# Altium schematic symbol library PressurePulse.SchLib: 50 symbols
Pins are listed as number, name and electrical type; pins without a type are passive.

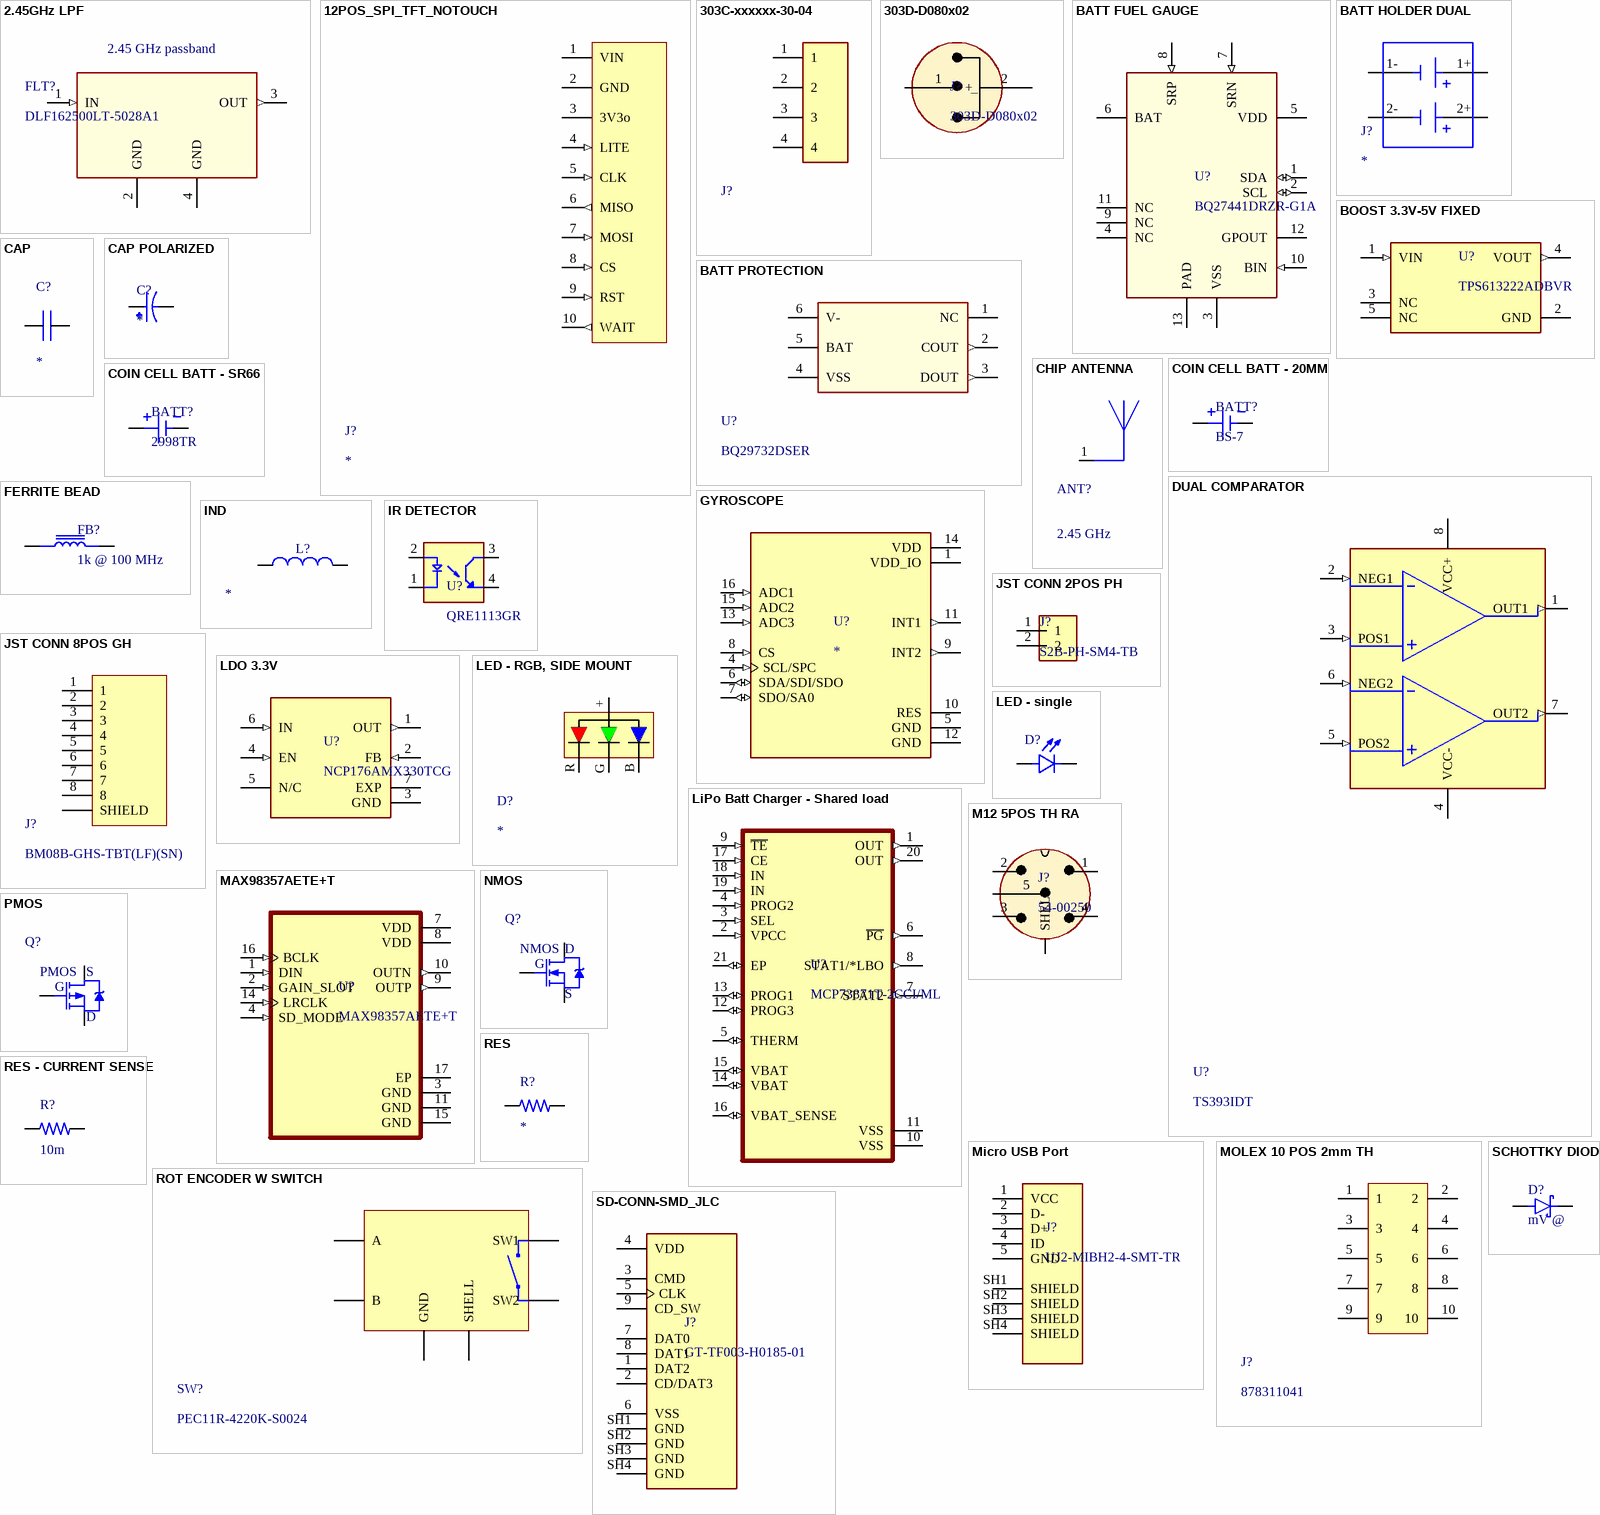
[diagram p0: symbols 2.45GHz LPF to SD-CONN-SMD_JLC]

## 2.45GHz LPF
designator FLT?, comment DLF162500LT-5028A1
RF FILTER LOW PASS 2.45GHZ 0603; MFR: TDK; MFR PN: DLF162500LT-5028A1; Value: DLF162500LT-5028A1; JLCPCB PN: C531364
footprint DLF-4_1P6X0P8
pins: 1 IN (in), 2 GND (power), 3 OUT (out), 4 GND (power)
text: 2.45 GHz passband

## 12POS_SPI_TFT_NOTOUCH
designator J?
Value: DNS; MFR: *; MFR PN: *; JLCPCB PN: *
footprint 2.54MM-12POS_TFT
pins: 1 VIN (power), 2 GND, 3 3V3o, 4 LITE (in), 5 CLK (in), 6 MISO (out), 7 MOSI (in), 8 CS (in), 9 RST (in), 10 WAIT (out)

## 303C-xxxxxx-30-04
designator J?
MAGNETIC POGO 4POS; MFR: ATTEND Technology; MFR PN: 303C-321018-30-04; Value: DNS; JLCPCB PN: *
footprint MAG POGO - 4 POS MALE
pins: 1, 2, 3, 4

## 303D-D080x02
designator J?
POGO PIN MAGNET TYPE, 2P, 8.0D,; MFR: ATTEND Technology; MFR PN: 303D-D080M02; Value: DNS; JLCPCB PN: *
footprint MAG POGO - MALE (ATTEND Technology)
footprint MAG POGO - FEMALE (ATTEND Technology)
pins: 1 +, 2 _

## BATT FUEL GAUGE
designator U?, comment BQ27441DRZR-G1A
No Description Available; MFR: Texas Instruments; Value: BQ27441DRZR-G1A; JLCPCB PN: *; MFR PN: BQ27441DRZR-G1A
footprint bq27441-G1
pins: 1 SDA (io), 2 SCL (io), 3 VSS (power), 4 NC, 5 VDD (power), 6 BAT (power), 7 SRN (in), 8 SRP (in), 9 NC, 10 BIN (in), 11 NC, 12 GPOUT (oc), 13 PAD (power)

## BATT HOLDER DUAL
designator J?
Battery Holder (Open) 18650 2 Cell PC Pin; MFR: MPD (Memory Protection Devices); MFR PN: BK-18650-PC4; Value: DNS; JLCPCB PN: *
footprint 18650_DUAL_PARALLEL
pins: 1+, 1-, 2+, 2-

## BATT PROTECTION
designator U?, comment BQ29732DSER
IC BATT PROT LI-ION 1CELL 6WSON; MFR: Texas Instruments; MFR PN: BQ29732DSER; Value: BQ29732DSER; JLCPCB PN: *
footprint 6-WFDFN
pins: 1 NC, 2 COUT (out), 3 DOUT (out), 4 VSS (power), 5 BAT, 6 V- (power)

## BOOST 3.3V-5V FIXED
designator U?, comment TPS613222ADBVR
6-uA Quiescent Current, 1.8-A Switch Current Boost Converter 5-SOT-23 -40 to 85; MFR: Texas Instruments; MFR PN: TPS613222ADBVR; Value: TPS613222ADBVR
footprint SOT-23-5
pins: 1 VIN (in), 2 GND (power), 3 NC, 4 VOUT (out), 5 NC

## CAP
designator C?  (value not drawn)
Capacitor; MFR: *; MFR PN: *; JLCPCB PN: *; Footprint: *; Value: *
footprint 0402C (0402 SMT Capacitor)
footprint 0805C
pins: 1, 2

## CAP POLARIZED
designator C?
Value: *; MFR: *; MFR PN: *; JLCPCB PN: *
footprint CAP_POL_SMD
pins: 1, 2

## CHIP ANTENNA
designator ANT?  Center Frequency: 2.45 GHz  (hidden comment: *)
MFR: Pulse Electronics; MFR PN: ANT7020LL05R2400A; Value: DNS; JLCPCB PN: *
footprint ANTC5220X130N
footprint ANT_ANT7020LL05R0870A_PUL-L
pins: 1

## COIN CELL BATT - 20MM
designator BATT?, comment BS-7
Battery Holder (Open) Coin, 20.0mm 1 Cell PC Pin; MP: BS-2-1; MF: Q&J; Value: BS-2-1; JLCPCB PN: C70376
footprint BAT_BS-7
pins: 1 POS, 2 NEG

## COIN CELL BATT - SR66
designator BATT?, comment 2998TR
Battery Holder (Open) Coin, 6.8mm, 1 Cell PC Pin; MFR: Keystone Electronics; Value: DNS; MFR PN: 2998TR; JLCPCB PN: DNS
footprint SR66
pins: N NEG, P POS

## DUAL COMPARATOR
designator U?, comment TS393IDT
Micropower dual CMOS voltage comparators; MFR: STMicroelectronics; MFR PN: TS393IDT; Value: TS393IDT; JLCPCB PN: C7106
footprint SOIC-8
pins: 1 OUT1 (out), 2 NEG1 (in), 3 POS1 (in), 4 VCC- (power), 5 POS2 (in), 6 NEG2 (in), 7 OUT2 (out), 8 VCC+ (power)

## FERRITE BEAD
designator FB?, comment 1k @ 100 MHz
MFR: TDK; MFR PN: MMZ1608Y102BTD25; Value: *; JLCPCB PN: *; Footprint: *
pins: 1, 2

## GYROSCOPE
designator U?
Accelerometer X, Y, Z Axis Â±2g, 4g, 8g, 16g 0.5Hz ~ 625Hz 16-LGA (3x3); MFR: STMicroelectronics; Value: LIS3DHTR; MFR PN: LIS3DHTR; JLCPCB PN: C15134
footprint 16-VFLGA
pins: 1 VDD_IO (power), 4 SCL/SPC (in), 5 GND (power), 6 SDA/SDI/SDO (io), 7 SDO/SA0 (io), 8 CS (in), 9 INT2 (out), 10 RES, 11 INT1 (out), 12 GND (power), 13 ADC3 (in), 14 VDD (power), 15 ADC2 (in), 16 ADC1 (in)

## IND
designator L?
INDUCTOR; JLCPCB PN: *; Footprint: *; Value: *
footprint 0806L
footprint 0402L
pins: 1, 2

## IR DETECTOR
designator U?, comment QRE1113GR
Reflective Optical Sensor 0.039 (1mm) 4-SMD, Gull Wing; MFR: ON Semiconductor; JLCPCB PN: C232862; Value: QRE1113GR; MFR PN: QRE1113GR
footprint SMD-4P
pins: 1 A, 2 C, 3 CT, 4 ET

## JST CONN 2POS PH
designator J?, comment S2B-PH-SM4-TB
Connector Header Surface Mount, Right Angle 2 position 0.079 (2.00mm); MFR PN: S2B-PH-SM4-TB(TF)(SN); MFR: JST Sales; Value: S2B-PH-SM4-TB(LF)(SN); Type: SMD; JLCPCB PN: C295747
footprint JST_PH-2POS-SMT-RA
pins: 1, 2

## JST CONN 8POS GH
designator J?, comment BM08B-GHS-TBT(LF)(SN)
Connector Header Surface Mount 8 position 0.049 _1.25mm_; MFR: JST Sales; Value: BM08B-GHS-TBT(LF)(SN); MFR PN: BM08B-GHS-TBT(LF)(SN); JLCPCB PN: C133062
footprint JST_BM08B-GHS-TBT(LF)(SN)(N)
pins: 1, 2, 3, 4, 5, 6, 7, 8, SHIELD

## LDO 3.3V
designator U?, comment NCP176AMX330TCG
LDO REGULATOR; MFR: onsemi; MFR PN: NCP176AMX330TCG; Value: NCP176AMX330TCG; JLCPCB PN: C233363
footprint 6-XDFN
pins: 1 OUT (out), 2 FB (in), 3 GND (power), 4 EN (in), 5 N/C, 6 IN (in), 7 EXP (power)

## LED - RGB, SIDE MOUNT
designator D?
MFR: Foshan NationStar Optoelectronics; MFR PN: FM-3510RGBA-SG; Value: FM-3510RGBA-SG; JLCPCB PN: C727903
footprint FM-3510RGBA-SG
pins: +, B, G, R

## LED - single
designator D?  (value not drawn)
LED; Color: *; MFR: *; MFR PN: *; Value: *
footprint 0603-LED
pins: 1 A, 2 C

## LiPo Batt Charger - Shared load
designator U?, comment MCP73871T-2CCI/ML
Charger IC Lithium Ion/Polymer 20-QFN (4x4); MFR: Microchip Technology; MFR PN: MCP73871T-2CCI/ML; Value: MCP73871T-2CCI/ML; JLCPCB PN: C511310
footprint 20-VFQFN EXPOSED PAD
pins: 1 OUT (out), 2 VPCC (in), 3 SEL (in), 4 PROG2 (in), 5 THERM (io), 6 ~{PG} (out), 7 STAT2 (out), 8 STAT1/*LBO (out), 9 ~{TE} (in), 10 VSS (power), 11 VSS (power), 12 PROG3 (io), 13 PROG1 (io), 14 VBAT (io), 15 VBAT (io), 16 VBAT_SENSE (io), 17 CE (in), 18 IN (in), 19 IN (in), 20 OUT (out), 21 EP (io)

## M12 5POS TH RA
designator J?, comment 54-00250
CONN PLUG MALE 5POS GOLD SOLDER; MFR: Tensility International Corp; Value: DNS; MFR PN: 54-00250
footprint TENSILITY_54-00250
pins: 1, 2, 3, 4, 5, SHELL

## MAX98357AETE+T
designator U?
I2S Audio DAC and amp; MFR: Analog Devices; Value: MAX98357AETE+T; Type: SMD; Footprint: *
footprint 16-WFQFN EXPOSED PAD
pins: 1 DIN (in), 2 GAIN_SLOT (in), 3 GND (power), 4 SD_MODE (in), 7 VDD (power), 8 VDD (power), 9 OUTP (out), 10 OUTN (out), 11 GND (power), 14 LRCLK (in), 15 GND (power), 16 BCLK (in), 17 EP (power)

## Micro USB Port
designator J?, comment UJ2-MIBH2-4-SMT-TR
Micro B, USB 2.0, 1.8 A, Right Angle, Surface Mount (SMT), USB Receptacle; MFR: CUI Devices; Value: UJ2-MIBH2-4-SMT-TR
footprint USB MICRO JLC (UA0507065250-037-06)
pins: 1 VCC, 2 D-, 3 D+, 4 ID, 5 GND, SH1 SHIELD, SH2 SHIELD, SH3 SHIELD, SH4 SHIELD

## MOLEX 10 POS 2mm TH
designator J?, comment 878311041
MFR: Molex; Value: DNS; MFR PN: 878311041
footprint 878311041
pins: 1, 2, 3, 4, 5, 6, 7, 8, 9, 10

## NMOS
designator Q?
100V 1.6A 1.3W 220mΩ@10V,1.6A N Channel SOT-23  MOSFETs ROHS; MFR: Infineon; Value: IRLML0100TRPBF; MFR PN: IRLML0100TRPBF; JLCPCB PN: C53658
footprint SOT-23
pins: D, G, S

## PMOS
designator Q?
P-Channel MOSFET; MFR: Diodes Incorporated; Value: BSS84-7-F; Footprint: *; JLCPCB PN: C2071163
footprint SOT-23
pins: D, G, S

## RES
designator R?
Resistor; MFR PN: *; MFR: *; JLCPCB PN: *; Value: *
footprint 0402R (0402 SMT Resistor)
footprint 0603-RES
footprint 0805R
pins: 1, 2

## RES - CURRENT SENSE
designator R?  value 10m
3W 10m Ohm Current Sense Resistor; Tolerance: 1%; MFR PN: *; MFR: *; JLCPCB PN: C429515
footprint 2512R
pins: 1, 2

## ROT ENCODER W SWITCH
designator SW?, comment PEC11R-4220K-S0024
Rotary Encoder Incremental 24 Quadrature, 2-Bit Vertical; MFR: Bourns Inc.; Value: DNS; MFR PN: PEC11R-4220K-S0024; JLCPCB PN: *
footprint PEC11R-4220K-S0024 (Rotary Encoder)
pins: A, B, GND, SHELL, SW1, SW2

## SCHOTTKY DIODE
designator D?, comment mV @
footprint SMAF
footprint SOD-523
pins: A, K

## SD-CONN-SMD_JLC
designator J?, comment GT-TF003-H0185-01
MFR: G-Switch; MFR PN: GT-TF003-H0185-01; Type: SMD; Value: GT-TF003-H0185-01
footprint GTTF003H018501
pins: 1 DAT2, 2 CD/DAT3, 3 CMD, 4 VDD, 5 CLK, 6 VSS, 7 DAT0, 8 DAT1, 9 CD_SW, SH1 GND, SH2 GND, SH3 GND, SH4 GND

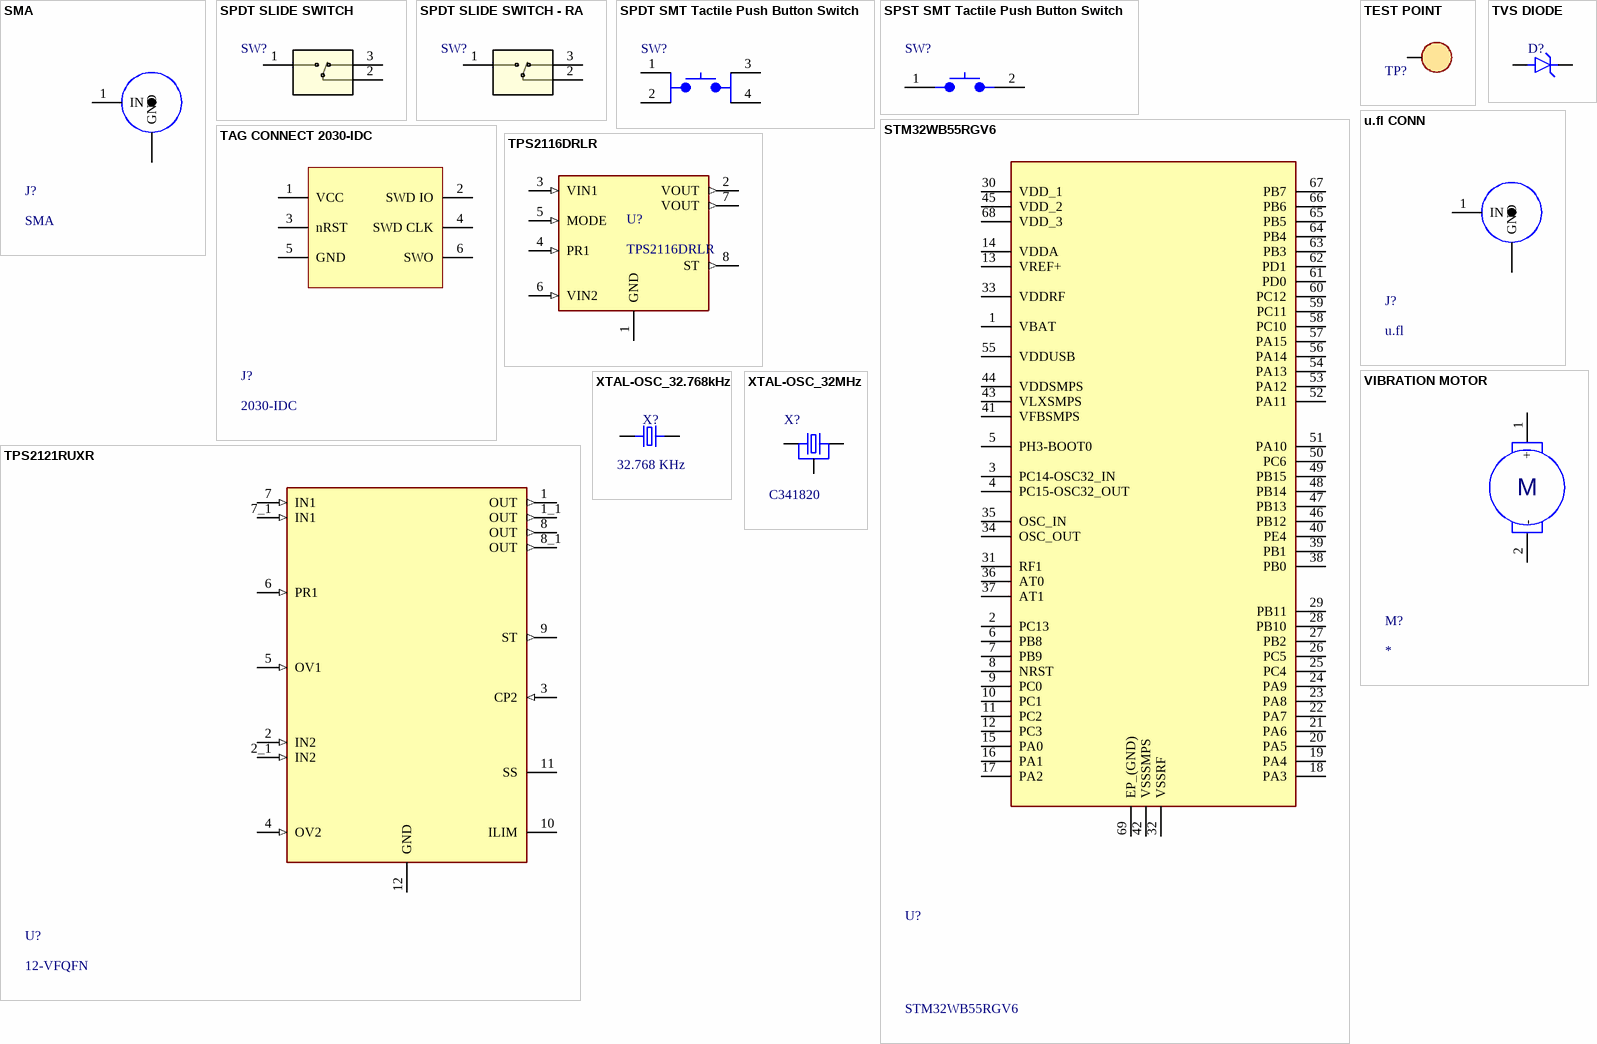
[diagram p1: symbols SMA to XTAL-OSC_32MHz]

## SMA
designator J?
SMA 50Ohm; MFR: DreamLNK; MFR PN: SMA-KWE901; Value: SMA-KWE901; JLCPCB PN: C914553
footprint SMA TH RA
pins: 1 IN, GND

## SPDT SLIDE SWITCH
designator SW?
MFR: C&K; MFR PN: JS102011SCQN; Value: JS102011SCQN; Type: SMD; JLCPCB PN: C221661
footprint JS102011SCQN
pins: 1, 2, 3

## SPDT SLIDE SWITCH - RA
designator SW?
MFR: Korean Hroparts Elec; MFR PN: K3-1290S-J1; Value: K3-1290S-J1; Type: SMD; JLCPCB PN: C223846
footprint K3-1290S-J1
pins: 1, 2, 3

## SPDT SMT Tactile Push Button Switch
designator SW?  (value not drawn)
MFR: *; MFR PN: *; Value: *; JLCPCB PN: *
footprint TL6200
pins: 1, 2, 3, 4

## SPST SMT Tactile Push Button Switch
designator SW?  (value not drawn)
MFR: E-Switch; MFR PN: TL3302BF180QJ; Value: TL3302BF180QJ; JLCPCB PN: C2886917
footprint TL3302BF180QJ
pins: 1, 2 3

## STM32WB55RGV6
designator U?
ARM Microcontrollers - MCU Ultra-low-power dual core Arm Cortex-M4 MCU 64 MHz, Cortex-M0 32MHz with 1 Mbyte Flash, BLE, 802.15.4, USB, LCD, AES-256; MFR: STMicroelectronics; Value: STM32WB55RGV6; JLCPCB PN: C401505; Footprint: *
footprint VQFN-68
pins: 1 VBAT, 2 PC13, 3 PC14-OSC32_IN, 4 PC15-OSC32_OUT, 5 PH3-BOOT0, 6 PB8, 7 PB9, 8 NRST, 9 PC0, 10 PC1, 11 PC2, 12 PC3, 13 VREF+, 14 VDDA, 15 PA0, 16 PA1, 17 PA2, 18 PA3, 19 PA4, 20 PA5, 21 PA6, 22 PA7, 23 PA8, 24 PA9, 25 PC4, 26 PC5, 27 PB2, 28 PB10, 29 PB11, 30 VDD_1, 31 RF1, 32 VSSRF, 33 VDDRF, 34 OSC_OUT, 35 OSC_IN, 36 AT0, 37 AT1, 38 PB0, 39 PB1, 40 PE4, 41 VFBSMPS, 42 VSSSMPS, 43 VLXSMPS, 44 VDDSMPS, 45 VDD_2, 46 PB12, 47 PB13, 48 PB14, 49 PB15, 50 PC6, 51 PA10, 52 PA11, 53 PA12, 54 PA13, 55 VDDUSB, 56 PA14, 57 PA15, 58 PC10, 59 PC11, 60 PC12, 61 PD0, 62 PD1, 63 PB3, 64 PB4, 65 PB5, 66 PB6, 67 PB7, 68 VDD_3, 69 EP_(GND)

## TAG CONNECT 2030-IDC
designator J?, comment 2030-IDC
TAG CONNECT 2030-IDC; MFR PN: TC2030-IDC; Value: DNS; MFR: Tag Connect
footprint TAG CONNECT TC2030IDC - NO 3D MODEL
pins: 1 VCC, 2 SWD IO, 3 nRST, 4 SWD CLK, 5 GND, 6 SWO

## TEST POINT
designator TP?, comment RH-5019  (value not drawn)
MFR: ronghe; MFR PN: RH-5019; Value: RH-5019; JLCPCB PN: C5199800
footprint TP - RH-5019 (TEST POINT)
pins: 1

## TPS2116DRLR
designator U?
1.6-V to 5.5-V, 40-mâ„¦, 2.5-A, low-IQ, priority power multiplexer; MFR: Texas Instruments; Value: TPS2116DRLR; MFR PN: TPS2116DRLR; JLCPCB PN: C3235557
footprint SOT-583
pins: 1 GND (power), 2 VOUT (out), 3 VIN1 (in), 4 PR1 (in), 5 MODE (in), 6 VIN2 (in), 7 VOUT (out), 8 ST (out)

## TPS2121RUXR
designator U?, comment 12-VFQFN
2.7-V to 22-V, 56-ma, 4.5-A, power mux with seamless switchover; MFR: Texas Instruments; Value: TPS2121RUXR; MFR PN: TPS2121RUXR
footprint 12-VFQFN
pins: 1 OUT (out), 1_1 OUT (out), 2 IN2 (in), 2_1 IN2 (in), 3 CP2 (in), 4 OV2 (in), 5 OV1 (in), 6 PR1 (in), 7 IN1 (in), 7_1 IN1 (in), 8 OUT (out), 8_1 OUT (out), 9 ST (out), 10 ILIM, 11 SS, 12 GND (power)

## TVS DIODE
designator D?, comment BDFN2C051V40  (value not drawn)
25V Clamp 4A (8/20µs) Ipp Tvs Diode Surface Mount SLP1006P2; MFR: BORN; Type: SMD; MFR PN: BDFN2C051V40; Value: BDFN2C051V40; JLCPCB PN: C152023
footprint BDFN2C051V40
pins: A, K

## u.fl CONN
designator J?, comment u.fl
u.fl 50Ohm; MFR: HRS(Hirose); MFR PN: U.FL-R-SMT-1(80); Value: U.FL-R-SMT-1(80); JLCPCB PN: C88374
footprint U.FL
pins: 1 IN, GND

## VIBRATION MOTOR
designator M?
9000rpm Coin Type Vibration Motor 3V -  Vibration Motor ROHS; MFR: LEADER; MFR PN: LCM0827A3038F; Value: LCM0827A3038F; JLCPCB PN: C2759981
footprint BARE PADS - 2
pins: 1 +, 2 -
text: M

## XTAL-OSC_32.768kHz
designator X?  Frequency: 32.768 KHz  (hidden comment: *)
32.768kHz 12.5pF ±20ppm SMD3215-2P  Crystals ROHS; MFR: CITIZEN; MFR PN: CM315D32768DZFT; Value: CM315D32768DZFT; JLCPCB PN: C182057
footprint XTAL_ECS-.327-12.5-34B-TR
pins: 1, 2

## XTAL-OSC_32MHz
designator X?  JLCPCB PN: C341820
SMD Tuning Fork Crystal; MFR PN: Murata; Frequency: 32 MHz; Value: XRCMD32M000FXP50R0; Type: SMD
footprint 32MHZ_SMD1612-4P
pins: 1, 3, GND